# EAGLE library part L6924D (library CougsInSpace)
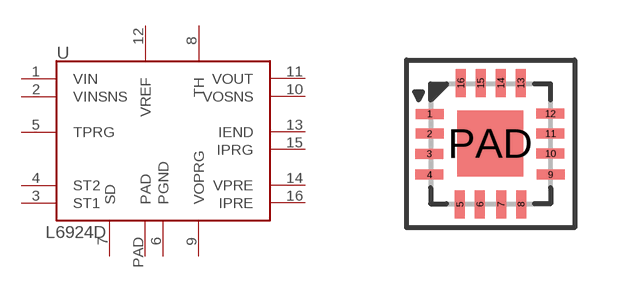
[diagram p2: symbol with the pads of QFN16-3X3; footprint QFN16-3X3]

Designator prefix U

## L6924D  [QFN16-3X3]
1  VIN  in
2  VINSNS  in
3  ST1  oc
4  ST2  oc
5  TPRG  in
6  PGND  pwr
7  SD  in
8  TH  in
9  VOPRG  in
10  VOSNS  in
11  VOUT  out
12  VREF  out
13  IEND
14  VPRE  pas
15  IPRG  in
16  IPRE  pas
PAD  PAD

## Footprint QFN16-3X3 (pad centres in mm)
smd 0.7 x 0.25: 1 -1.524,0.75; 2 -1.524,0.253; 3 -1.529,-0.25; 4 -1.527,-0.774; 9 1.503,-0.77; 10 1.498,-0.245; 11 1.498,0.255; 12 1.495,0.755
smd 0.25 x 0.7: 5 -0.765,-1.513; 6 -0.265,-1.513; 7 0.263,-1.513; 8 0.763,-1.513; 13 0.758,1.518; 14 0.258,1.518; 15 -0.247,1.518; 16 -0.742,1.518
smd 1.65 x 1.65: PAD -0.009,0.008